# EAGLE library part MS5803-14BA (library REEF_LIB)
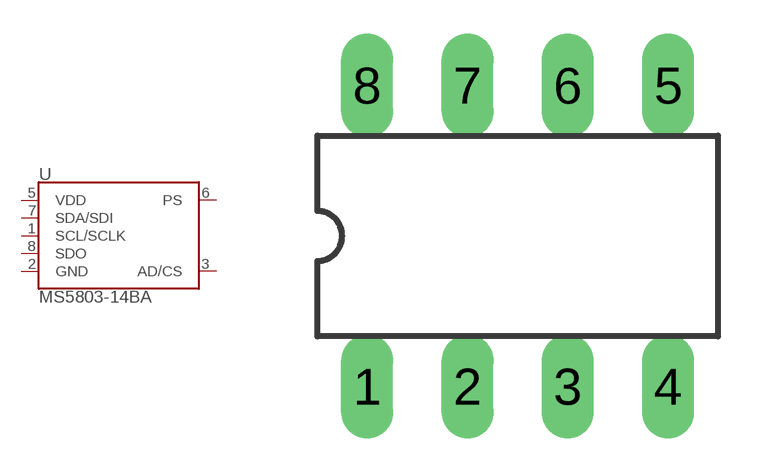
[diagram p4: symbol with the pads of DIL8; footprint DIL8]

Designator prefix -

## MS5803-14BA  [DIL8]
1  SCL/SCLK
2  GND
3  AD/CS
5  VDD
6  PS
7  SDA/SDI
8  SDO

## Footprint DIL8 (pad centres in mm)
Dual In Line package type P
drill 0.813 long: 1 -3.81,-3.81; 2 -1.27,-3.81; 3 1.27,-3.81; 4 3.81,-3.81; 5 3.81,3.81; 6 1.27,3.81; 7 -1.27,3.81; 8 -3.81,3.81